# EAGLE library part LT3063 (library linear)
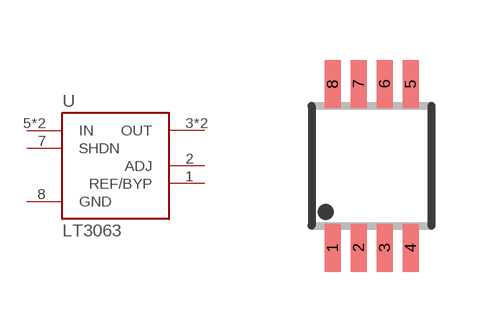
[diagram p321: symbol with the pads of MSOP8; footprint MSOP8]

Designator prefix U

## LT3063  [MSOP8]
1  REF/BYP
2  ADJ
3  OUT
4  OUT
5  IN
6  IN
7  SHDN
8  GND

## Footprint MSOP8 (pad centres in mm)
MSOP8
smd 0.4 x 1.2: 1 -0.975,-2.05; 2 -0.325,-2.05; 3 0.325,-2.05; 4 0.975,-2.05; 5 0.975,2.05; 6 0.325,2.05; 7 -0.325,2.05; 8 -0.975,2.05